# EAGLE library part WE-DS_246117113 (library wurth_elektronik_passive_rev16d)
WE-DS D-SUB-Filter Connectors Bent 90° Characteristics Standard type filtered with 1000 pF High attenuation of more than 40 dB @ 180 MHz Low size: 6.3 mm Rated voltage: 125 VDC Rated current @ 20 ºC: 5 A Withstand voltage: 250 VRMS Insulation resistance: min. 1000 MΩ Operating temperature: –55 ºC to +125 ºC Applications Filtering of interfaces External connection to -printer -sensor -display <http://katalog.we-online.de/media/thumbs2/eisos/thb_AbsDSubFilter_SMD_pf2.jpg> Details see: http://katalog.we-online.de/en/pbs/D-SUB-Filter Bent 90° <http://katalog.we-online.de/en/pbs/Filter_SMD?sid=29b915c42a> Created on 2015-05-04 2015 (C) Wurth Elektronik
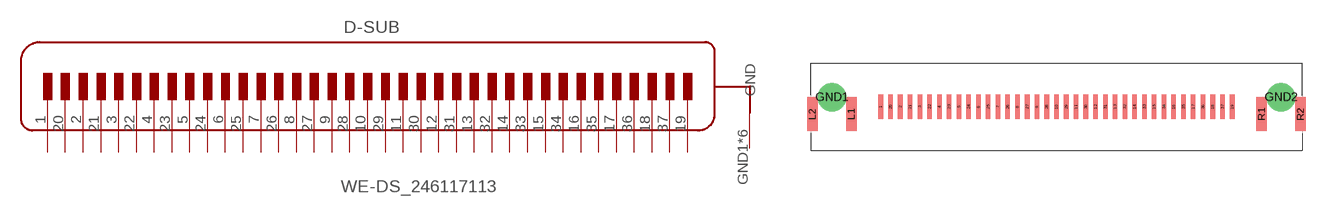
[diagram p210: symbol with the pads of WE-DS_246117113; footprint WE-DS_246117113]

Designator prefix D-SUB

## WE-DS_246117113  [WE-DS_246117113]
1  1
2  2
3  3
4  4
5  5
6  6
7  7
8  8
9  9
10  10
11  11
12  12
13  13
14  14
15  15
16  16
17  17
18  18
19  19
20  20
21  21
22  22
23  23
24  24
25  25
26  26
27  27
28  28
29  29
30  30
31  31
32  32
33  33
34  34
35  35
36  36
37  37
GND1  GND
GND2  GND
L1  GND
L2  GND
R1  GND
R2  GND

## Footprint WE-DS_246117113 (pad centres in mm)
smd 0.65 x 3.5: 1 -24.84,0; 2 -22.08,0; 3 -19.32,0; 4 -16.56,0; 5 -13.8,0; 6 -11.04,0; 7 -8.28,0; 8 -5.52,0; 9 -2.76,0; 10 0,0; 11 2.76,0; 12 5.52,0; 13 8.28,0; 14 11.04,0; 15 13.8,0; 16 16.56,0; 17 19.32,0; 18 22.08,0; 19 24.84,0; 20 -23.46,0; 21 -20.7,0; 22 -17.94,0; 23 -15.18,0; 24 -12.42,0; 25 -9.66,0; 26 -6.9,0; 27 -4.14,0; 28 -1.38,0; 29 1.38,0; 30 4.14,0; 31 6.9,0; 32 9.66,0; 33 12.42,0; 34 15.18,0; 35 17.94,0; 36 20.7,0; 37 23.46,0
drill 3 pad 3.9: GND1 -31.75,1.35; GND2 31.75,1.35
smd 1.5 x 4.8: L1 -29,-1.05; L2 -34.5,-1.05; R1 29,-1.05; R2 34.5,-1.05